# EAGLE library part LT3513 (library PowerProducts)
2MHz High Current 5-Output Regulator for TFT-LCD Panels
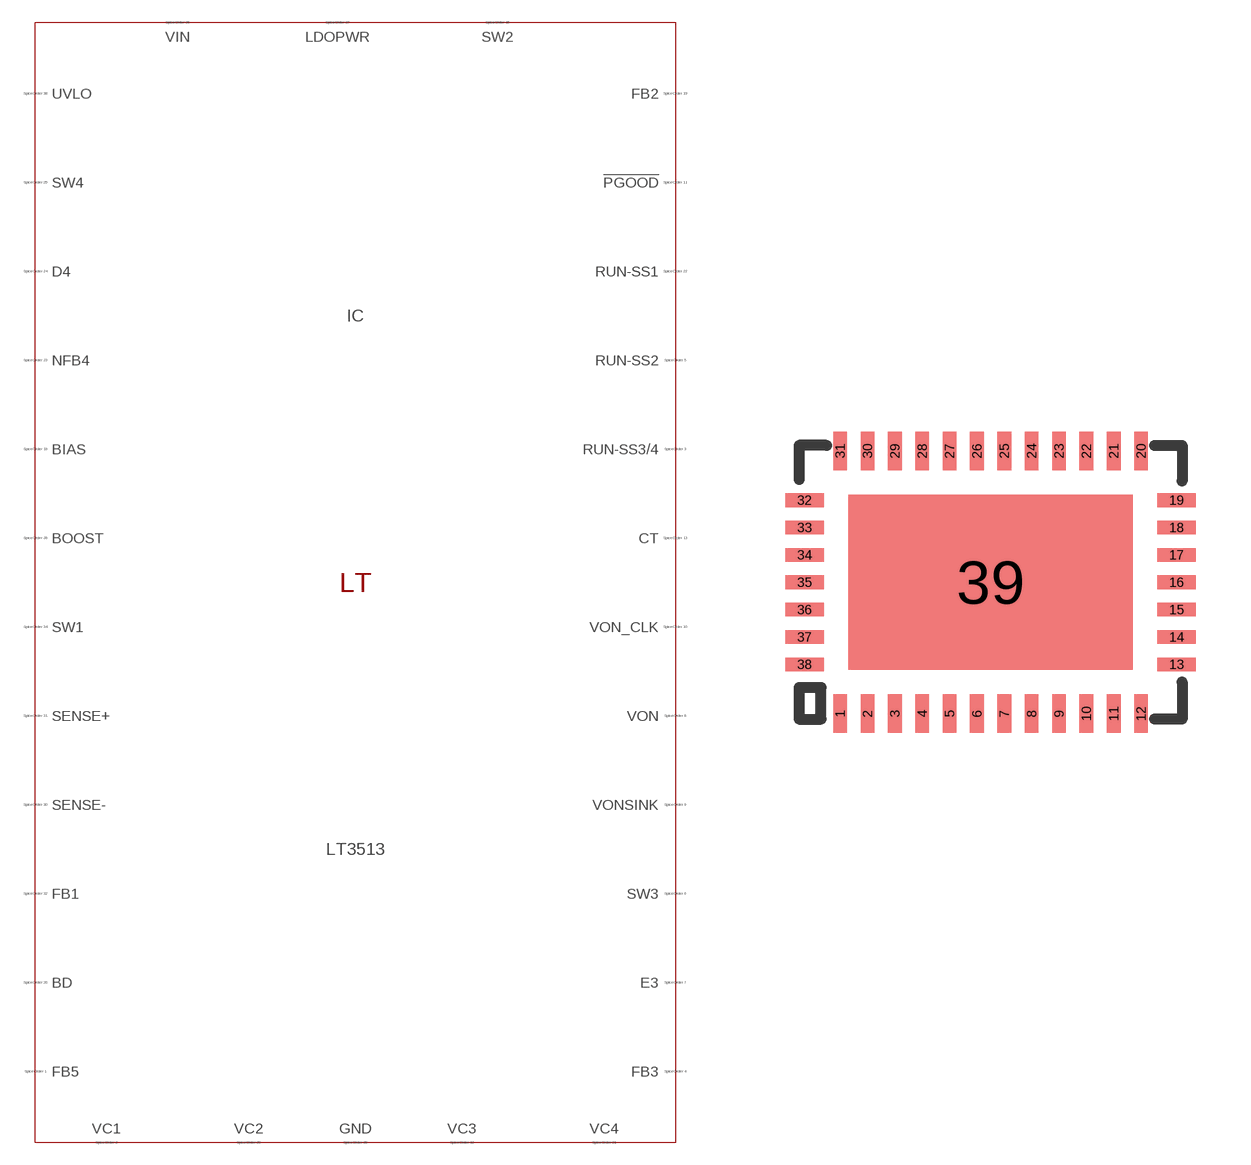
[diagram p71: symbol with the pads of QFN38(UHF); footprint QFN38(UHF)]

Designator prefix IC

## LT3513 (SPICEMODEL: LT3513.sub; SPICEPREFIX: X; VALUE2: LT3513)  [QFN38(UHF)]
1  FB5  pas
2  VC1  pas
3  RUN-SS3/4  pas
4  FB3  pas
5  RUN-SS2  pas
6  SW3  pas
7  E3  pas
8  VON  pas
9  VONSINK  pas
10  VON_CLK  pas
11  !PGOOD  pas
12  VC3  pas
13  CT  pas
14  GND  pas
15  SW2  pas
16  SW2  pas
17  GND  pas
18  BIAS  pas
19  FB2  pas
20  VC2  pas
21  VC4  pas
22  RUN-SS1  pas
23  NFB4  pas
24  D4  pas
25  SW4  pas
26  BD  pas
27  LDOPWR  pas
28  BOOST  pas
29  BIAS  pas
30  SENSE-  pas
31  SENSE+  pas
32  FB1  pas
33  GND  pas
34  SW1  pas
35  SW1  pas
36  VIN  pas
37  VIN  pas
38  UVLO  pas
39  GND  pas

## Footprint QFN38(UHF) (pad centres in mm)
Package generated from: QFN38(UHF).asc (!PADS-POWERPCB-V5.0-BASIC! DESIGN DATABASE ASCII FILE 1.0) with :import-pads-powerpcb-v5.ulp Version 1.0.1 at 04.10.2012 14:11:28
smd 0.375 x 1.05: 1 -4.125,-3.6; 2 -3.375,-3.6; 3 -2.625,-3.6; 4 -1.875,-3.6; 5 -1.125,-3.6; 6 -0.375,-3.6; 7 0.375,-3.6; 8 1.125,-3.6; 9 1.875,-3.6; 10 2.625,-3.6; 11 3.375,-3.6; 12 4.125,-3.6; 20 4.125,3.6; 21 3.375,3.6; 22 2.625,3.6; 23 1.875,3.6; 24 1.125,3.6; 25 0.375,3.6; 26 -0.375,3.6; 27 -1.125,3.6; 28 -1.875,3.6; 29 -2.625,3.6; 30 -3.375,3.6; 31 -4.125,3.6
smd 1.05 x 0.375: 13 5.1,-2.25; 14 5.1,-1.5; 15 5.1,-0.75; 16 5.1,0; 17 5.1,0.75; 18 5.1,1.5; 19 5.1,2.25; 32 -5.1,2.25; 33 -5.1,1.5; 34 -5.1,0.75; 35 -5.1,0; 36 -5.1,-0.75; 37 -5.1,-1.5; 38 -5.1,-2.25
smd 7.8 x 4.8: 39 0,0